# EAGLE library part EA-OLEDS102-6 (library bucket)
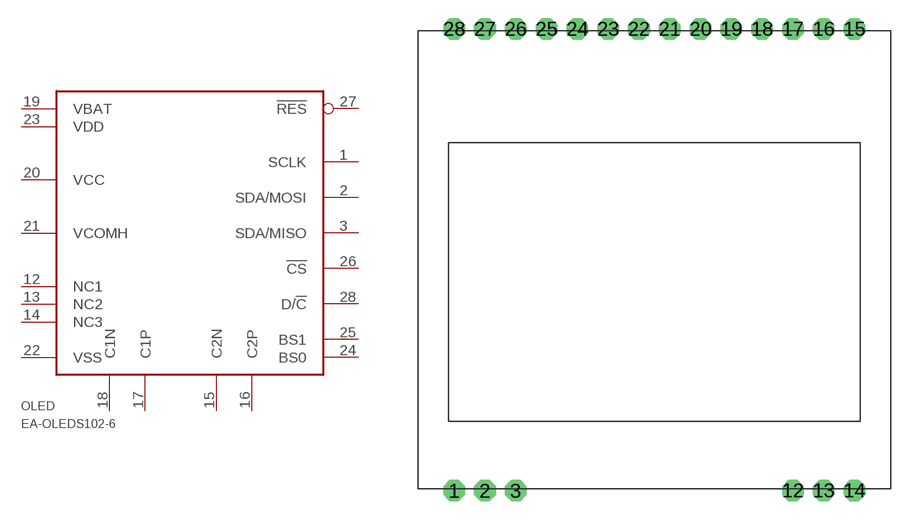
[diagram p1: symbol with the pads of EA-OLEDS102-6; footprint EA-OLEDS102-6]

Designator prefix OLED

## EA-OLEDS102-6  [EA-OLEDS102-6]
1  SCLK
2  SDA/MOSI
3  SDA/MISO
12  NC1  nc
13  NC2  nc
14  NC3  nc
15  C2N
16  C2P
17  C1P
18  C1N
19  VBAT  in
20  VCC
21  VCOMH
22  VSS  in
23  VDD  in
24  BS0  in
25  BS1  in
26  !CS
27  !RES  in
28  D/!C

## Footprint EA-OLEDS102-6 (pad centres in mm)
drill 1.1 pad 1.778 octagon: 1 -16.51,-19.05; 2 -13.97,-19.05; 3 -11.43,-19.05; 12 11.43,-19.05; 13 13.97,-19.05; 14 16.51,-19.05; 15 16.51,19.05; 16 13.97,19.05; 17 11.43,19.05; 18 8.89,19.05; 19 6.35,19.05; 20 3.81,19.05; 21 1.27,19.05; 22 -1.27,19.05; 23 -3.81,19.05; 24 -6.35,19.05; 25 -8.89,19.05; 26 -11.43,19.05; 27 -13.97,19.05; 28 -16.51,19.05